# Altium integrated library Header 3.IntLib: 1 symbol
Pins are listed as number, name and electrical type; pins without a type are passive.

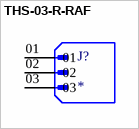
[diagram p0: symbol THS-03-R-RAF]

## THS-03-R-RAF
designator J?
MP: THS-03-R-RAF; Price: None; Package: None; Value: *; Availability: Unavailable
footprint VALCON_THS-03-R-RAF
pins: 01, 02, 03